# Altium footprint library PcbLib1.PcbLib: 31 footprints (part 2 of 2)
Each footprint in its own frame and in the unit in brackets; x right, y up, seen from the top. Pads: shape width x height; smd on the part's side, far side on the other; paste and mask are expansions set on the pad; w line width, h text height; cw(c..) or ccw(c..) is an arc to the next point about the centre after c.
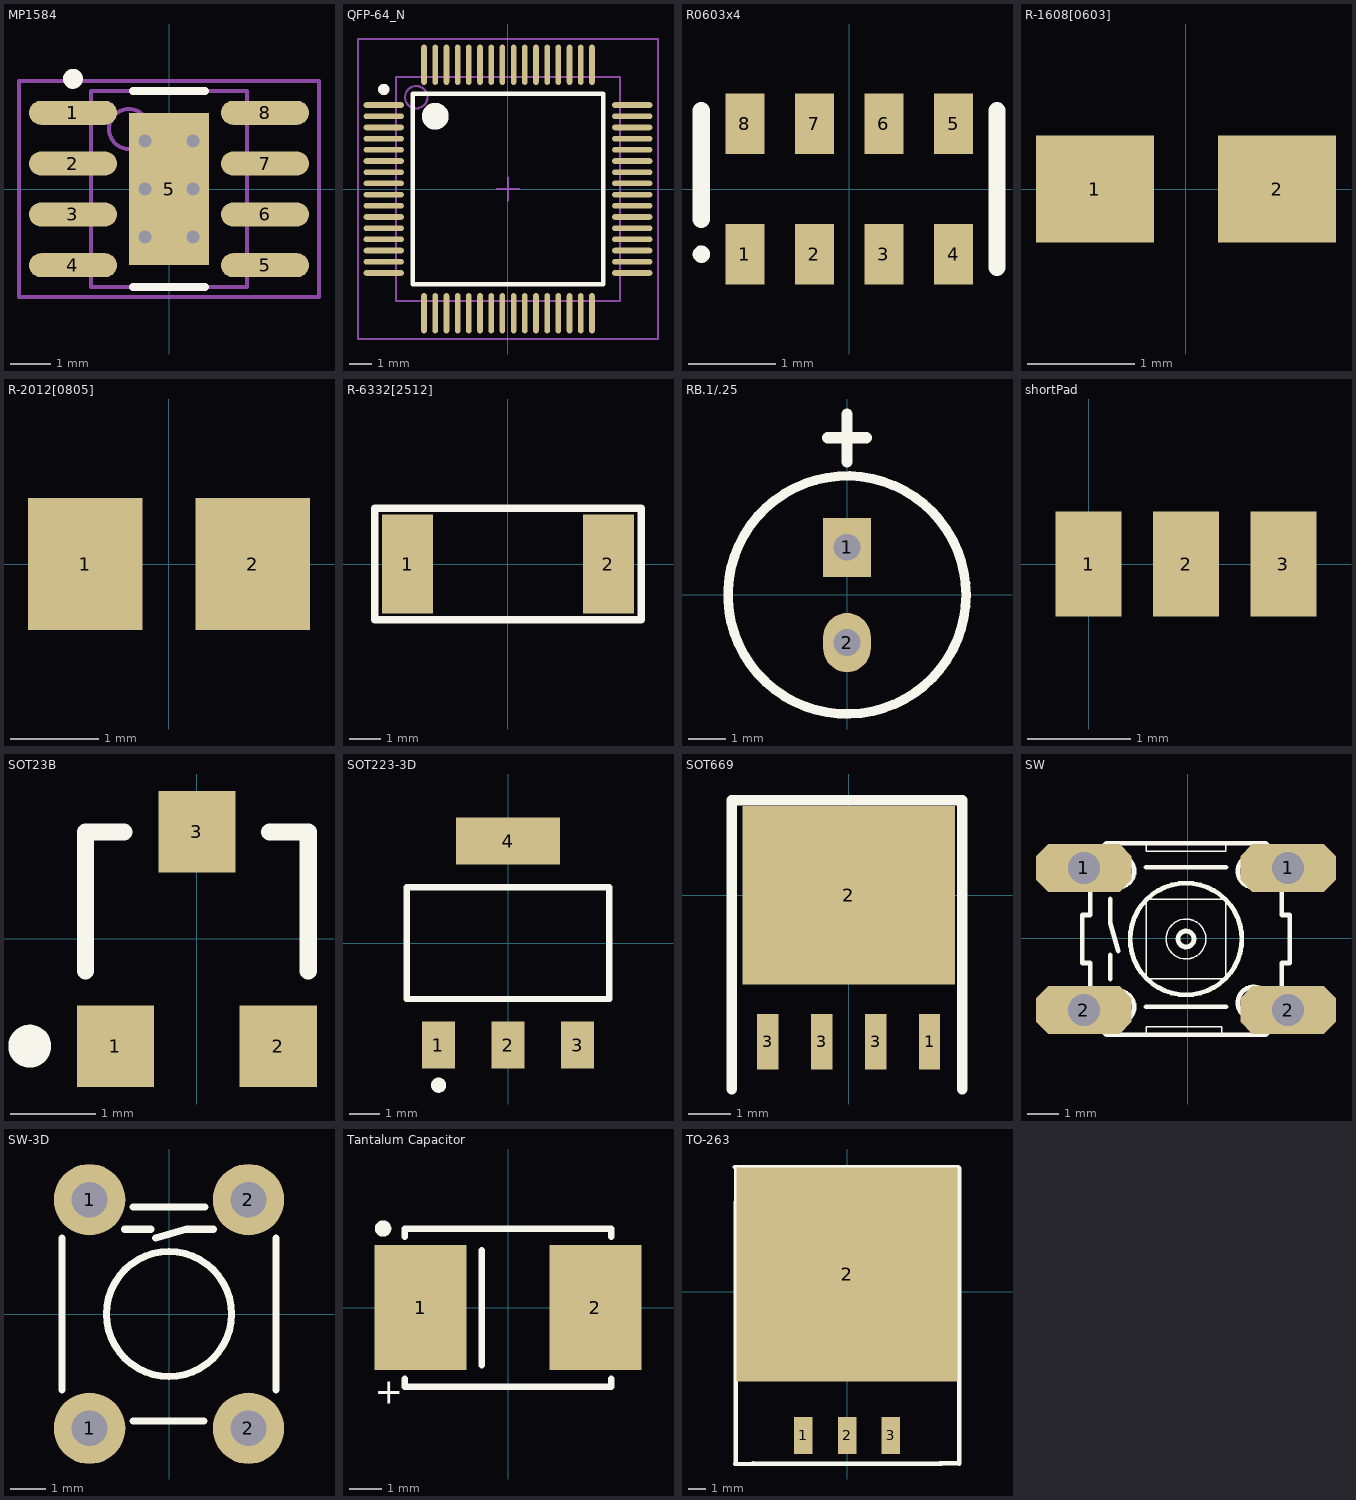
[diagram p1: the footprints below, top view; thin cyan lines are the x and y axes]

## MP1584 [mm] "SOIC, 8-Leads, Body 4.9x3.9mm (max), Pitch 1.27mm, IPC Medium Density"
height 1.7
pads (9):
  oval 2.2x0.6 smd: 1(-2.4,1.905) 2(-2.4,0.635) 3(-2.4,-0.635) 4(-2.4,-1.905) 5(2.4,-1.905) 6(2.4,-0.635) 7(2.4,0.635) 8(2.4,1.905)
  rect 2x3.8 smd: 5(0,0)
via -0.6,1.2 diameter 0.66 hole 0.33
via 0.6,1.2 diameter 0.66 hole 0.33
via -0.6,0 diameter 0.66 hole 0.33
via 0.6,0 diameter 0.66 hole 0.33
via -0.6,-1.2 diameter 0.66 hole 0.33
via 0.6,-1.2 diameter 0.66 hole 0.33
Top Overlay:
  circle w0.25: c-2.4,2.755 r0.125
  lines w0.2: -0.9,-2.45 0.9,-2.45 ; -0.9,2.45 0.9,2.45
Mechanical 13:
  circle w0.1: c-1,1.5 r0.5
  lines w0.1: -1.95,-2.45 -1.95,2.45 1.95,2.45 1.95,-2.45 -1.95,-2.45
Mechanical 15:
  lines w0.1: -0.5,0 0.5,0 ; 0,-0.5 0,0.5 ; -3.75,-2.7 -3.75,2.7 3.75,2.7 3.75,-2.7 -3.75,-2.7
3D body: height 1.7, standoff 0.15, extent -1.95,-2.45 1.95,2.45

## QFP-64_N [mm]
pads (64):
  oval 1.8x0.254 smd: 1(-5.55,3.75) 2(-5.55,3.25) 3(-5.55,2.75) 4(-5.55,2.25) 5(-5.55,1.75) 6(-5.55,1.25) 7(-5.55,0.75) 8(-5.55,0.25) 9(-5.55,-0.25) 10(-5.55,-0.75) 11(-5.55,-1.25) 12(-5.55,-1.75) 13(-5.55,-2.25) 14(-5.55,-2.75) 15(-5.55,-3.25) 16(-5.55,-3.75) 33(5.55,-3.75) 34(5.55,-3.25) 35(5.55,-2.75) 36(5.55,-2.25) 37(5.55,-1.75) 38(5.55,-1.25) 39(5.55,-0.75) 40(5.55,-0.25) 41(5.55,0.25) 42(5.55,0.75) 43(5.55,1.25) 44(5.55,1.75) 45(5.55,2.25) 46(5.55,2.75) 47(5.55,3.25) 48(5.55,3.75)
  oval 0.254x1.8 smd: 17(-3.75,-5.55) 18(-3.25,-5.55) 19(-2.75,-5.55) 20(-2.25,-5.55) 21(-1.75,-5.55) 22(-1.25,-5.55) 23(-0.75,-5.55) 24(-0.25,-5.55) 25(0.25,-5.55) 26(0.75,-5.55) 27(1.25,-5.55) 28(1.75,-5.55) 29(2.25,-5.55) 30(2.75,-5.55) 31(3.25,-5.55) 32(3.75,-5.55) 49(3.75,5.55) 50(3.25,5.55) 51(2.75,5.55) 52(2.25,5.55) 53(1.75,5.55) 54(1.25,5.55) 55(0.75,5.55) 56(0.25,5.55) 57(-0.25,5.55) 58(-0.75,5.55) 59(-1.25,5.55) 60(-1.75,5.55) 61(-2.25,5.55) 62(-2.75,5.55) 63(-3.25,5.55) 64(-3.75,5.55)
Top Overlay:
  circle w0.6: c-3.25,3.25 r0.3
  circle w0.25: c-5.55,4.45 r0.125
  lines w0.2: -4.25,-4.25 4.25,-4.25 4.25,4.25 -4.25,4.25 -4.25,-4.25
Mechanical 13:
  circle w0.1: c-4.1,4.1 r0.5
  lines w0.1: -5,-5 5,-5 5,5 -5,5 -5,-5
Mechanical 15:
  lines w0.1: -0.5,0 0.5,0 ; 0,-0.5 0,0.5 ; -6.7,-6.7 6.7,-6.7 6.7,6.7 -6.7,6.7 -6.7,-6.7
3D body: height 1.6, standoff 0, extent -5,-5 5,5

## R0603x4 [mm] "Chip Resistor Array, (0603x4); SM; 8 Leads; Body 3.40 x 1.80 mm (LxW max)"
height 0.7
pads (8):
  rect 0.45x0.7 smd: 1(-1.2,-0.75) 2(-0.4,-0.75) 3(0.4,-0.75) 4(1.2,-0.75) 5(1.2,0.75) 6(0.4,0.75) 7(-0.4,0.75) 8(-1.2,0.75)
Top Overlay:
  circle w0.1: c-1.7,-0.75 r0.05
  lines w0.2: -1.7,-0.35 -1.7,0.9 ; 1.7,-0.9 1.7,0.9
3D body: height 0.65, standoff 0, extent -1.6,-0.762 1.6,0.838

## R-1608[0603] [mm] "Chip Resistor; Body 1.6 x 0.8 mm (LxW typ)"
height 1.35
pads (2):
  rect 1.1x1 smd: 1(-0.85,0) 2(0.85,0)
3D body: height 0.48, standoff -0.05, extent -1.27,-0.508 1.33,0.492

## R-2012[0805] [mm] "Chip Resistor; Body 2.0 x 1.3 mm (LxW typ)"
height 0.65
pads (2):
  rect 1.3x1.5 smd: 1(-0.95,0) 2(0.95,0)
3D body: height -0.38, standoff -0.91, extent -1.5,-0.689 1.5,0.711

## R-6332[2512] [mm] "贴片电阻2512 size6.35*3.2mm"
height 0.65
pads (2):
  rect 1.65x3.2 smd: 1(-3.24,0) 2(3.24,0)
Top Overlay:
  lines w0.254: 4.3,-1.8 -4.3,-1.8 -4.3,1.8 4.3,1.8 ; 4.3,-1.75 4.3,1.75
3D body: height 0.6, standoff -0.04, extent -3.4,-1.651 3.4,1.649

## RB.1/.25 [mil]
pads (2):
  rect 50x62 hole 28: 1(0,50)
  oval 50x62 hole 28: 2(0,-50)
Top Overlay:
  circle w10: c0,0 r125
  lines w12: -20,165 20,165 ; 0,140 0,190

## shortPad [mil] "short pad"
height 10
pads (3):
  rect 25x40 smd: 1(0,0) 2(37,0) 3(74,0)

## SOT23B [mm] "SOT-23; 3 Leads; Body 3.0 x 2.6 mm, inc. leads (LxW max)"
height 1.1
pads (3):
  rect 0.9x0.95 smd: 1(-0.95,-1.25) 2(0.95,-1.25) 3(0,1.25)
Top Overlay:
  circle w0.25: c-1.95,-1.25 r0.125
  lines w0.2: -1.3,-0.375 -1.3,1.25 -0.85,1.25 ; 0.85,1.25 1.3,1.25 1.3,-0.375
3D body: height 1.1, standoff 0, extent -1.524,-1.27 1.476,1.272

## SOT223-3D [mm] "SOT-223/SC-73; 4 Leads; Body 6.7 x 7.3 mm, inc. leads (LxW max)"
height 1.8
pads (4):
  rect 1.1x1.55 smd: 1(-2.3,-3.375) 2(0,-3.375) 3(2.3,-3.375)
  rect 3.45x1.55 smd: 4(0,3.375)
Top Overlay:
  circle w0.25: c-2.3,-4.7 r0.125
  lines w0.2: -3.35,-1.85 3.35,-1.85 3.35,1.85 -3.35,1.85 -3.35,-1.85
3D body: height 1.66, standoff -0.02, extent -3.325,-3.48 3.175,3.48

## SOT669 [mm] "PSMN7R0-30YL  NMOS"
height 1.2
pads (5):
  rect 0.5x1.3 smd: 1(1.905,-3.45) 3(-1.905,-3.45) 3(-0.635,-3.45) 3(0.635,-3.45)
  rect 5x4.2 smd: 2(0,0)
Top Overlay:
  lines w0.254: -2.753,-4.564 -2.753,2.233 -2.73,2.233 ; -2.697,2.233 2.672,2.233 2.672,-4.564
3D body: height 1.15, standoff -0.05, extent -2.487,-4.23 2.413,2.198

## SW [mil] "引脚间距6.5mmX4."
height 196.85
pads (4):
  oct 120x60 hole 40: 1(-130,88) 1(126,88) 2(-130,-90) 2(126,-90)
Top Overlay:
  circle w6: c-2,-1 r70
  circle w6: c-87,-86 r20
  circle w6: c83,-81 r20
  circle w6: c83,84 r20
  circle w6: c-87,84 r20
  circle w2: c-2,-1 r25
  circle w6: c-2,-1 r10
  lines w2: -52,-121 -52,-111 43,-111 43,-121 ; -52,119 -52,109 48,109 48,119 ; -52,-51 -52,49 48,49 48,-51 -52,-51
  lines w6: -97,-51 -97,-21 ; -97,49 -97,19 -87,-16 ; -52,-86 48,-86 ; -52,89 48,89 ; -132,-31 -132,29 -122,29 -122,39 -122,99 -102,119 -87,119 -52,119 48,119 83,119 98,119 118,99 118,39 118,29 128,29 128,-31 118,-31 118,-41 118,-101 98,-121 83,-121 43,-121 -52,-121 -87,-121 -102,-121 -122,-101 -122,-41 -122,-31 -132,-31

## SW-3D [mil]
pads (4):
  round 80 hole 40: 1(-89,-128) 1(-89,128) 2(89,-128) 2(89,128)
Top Overlay:
  circle w8: c0,0 r70
  lines w8: -120,-85 -120,85 ; -50,95 -20,95 ; -40,-120 39.29,-120 ; -40,120 40.47,120 ; -15,85 20,95 50,95 ; 120,-85 120,85
3D body: height 212.6, standoff -118.11, extent -118.11,-161.65 118.11,161.65

## Tantalum Capacitor [mil] "Capacitor, SM Tantalum; Body 6.0 x 3.2 mm (LxW typ)"
height 133.86
pads (2):
  rect 110x150 smd: 1(-105,0) 2(105,0)
Top Overlay:
  circle w9.84: c-149.92,95 r4.92
  lines w7.87: -124.02,-85 -124.02,-95 124.02,-95 124.02,-85 ; -124.02,85 -124.02,95 124.02,95 124.02,85 ; -31.5,-68.9 -31.5,68.9
  text "+" at -160,-115 h30

## TO-263 [mm] "TO-263"
height 1.27
pads (4):
  rect 1.07x2.16 smd: 1(-2.54,-8.325) 2(0,-8.325) 3(2.54,-8.325)
  rect 12.8x12.41 smd: 2(0,1)
Top Overlay:
  lines w0.254: -6.495,-9.977 -5.298,-9.977 ; -6.462,7.186 -6.505,7.229 -5.446,7.229 ; -6.446,-9.929 -6.446,5.215 ; -6.439,5.179 -6.439,7.186 ; -5.446,-9.929 -5.418,-9.957 5.491,-9.957 ; -5.433,7.227 5.491,7.227 ; 5.329,7.229 6.429,7.229 6.469,7.188 ; 5.37,-9.939 6.342,-9.939 ; 6.469,7.165 6.49,7.145 6.49,5.222 ; 6.491,-9.957 6.491,5.227